# Altium footprint library Cnverter.PcbLib: 105 footprints (part 1 of 7)
Each footprint in its own frame and in the unit in brackets; x right, y up, seen from the top. Pads: shape width x height; smd on the part's side, far side on the other; paste and mask are expansions set on the pad; w line width, h text height; cw(c..) or ccw(c..) is an arc to the next point about the centre after c.
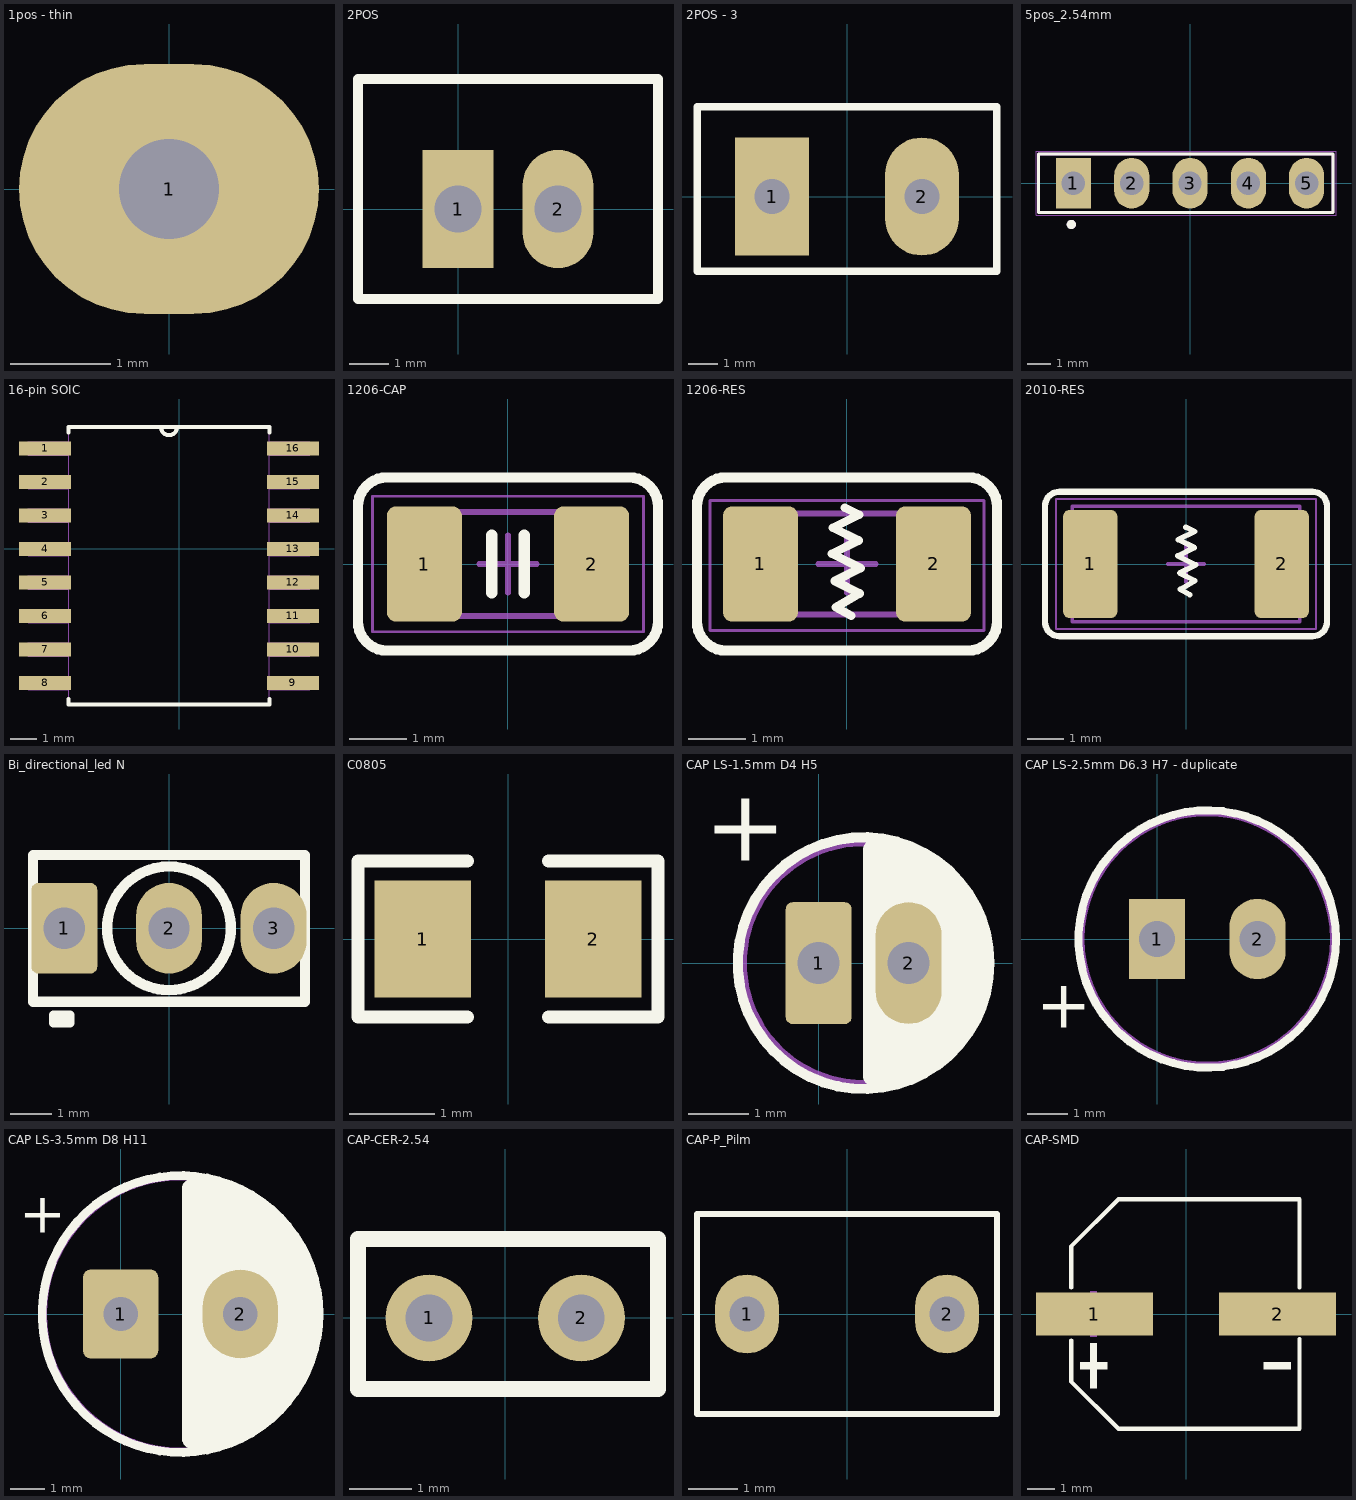
[diagram p0: the footprints below, top view; thin cyan lines are the x and y axes]

## 1pos - thin [mm]
pads (1):
  oval 3x2.5 hole 1: 1(0,0)

## 2POS [mm]
pads (2):
  rect 1.8x3 hole 1.2: 1(0,0)
  oval 1.8x3 hole 1.2: 2(2.54,0)
Top Overlay:
  lines w0.254: -2.54,-2.286 5.08,-2.286 5.08,3.302 -2.54,3.302 -2.54,-2.286
3D body "JST 2pin.stp": height 6.69, standoff -3.61, extent -2.471,-2.322 4.958,3.406

## 2POS - 3 [mm]
pads (2):
  rect 2.5x4 hole 1.2: 1(-2.54,0)
  oval 2.5x4 hole 1.2: 2(2.54,0)
Top Overlay:
  lines w0.254: -5.08,-2.54 -5.08,3.048 5.08,3.048 5.08,-2.54 -5.08,-2.54
3D body "JST 2.54X3P.step": height 7.01, standoff -2.99, extent -5.043,-2.537 5.037,3.163

## 5pos_2.54mm [mm]
pads (5):
  rect 1.53x2.2 hole 1.02: 1(-5.08,0)
  oval 1.53x2.2 hole 1.02: 2(-2.54,0) 3(0,0) 4(2.54,0) 5(5.08,0)
Top Overlay:
  circle w0.2: c-5.17,-1.8 r0.1
  lines w0.127: -6.6,-1.27 -6.6,1.27 6.23,1.27 6.23,-1.27 -6.6,-1.27
Top Assembly:
  circle w0.2: c-5.17,-1.8 r0.1
  lines w0.127: -6.6,-1.27 -6.6,1.27 6.23,1.27 6.23,-1.27 -6.6,-1.27
Top Courtyard:
  lines w0.05: -6.709,-1.392 -6.709,1.39 6.358,1.39 6.358,-1.392 -6.709,-1.392

## 16-pin SOIC [mil]
pads (16):
  rect 78x21 smd: 1(-200,150) 2(-200,100) 3(-200,50) 4(-200,0) 5(-200,-50) 6(-200,-100) 7(-200,-150) 8(-200,-200) 9(170,-200) 10(170,-150) 11(170,-100) 12(170,-50) 13(170,0) 14(170,50) 15(170,100) 16(170,150)
Top Overlay:
  lines w6: -165,-224 -165,-232 135,-232 135,-224 ; -165,174 -165,182 -27,182 ; 135,174 135,182 -3,182 ; -27,182 ccw(c-15,182) -3,182 ; -27,182 -3,182
Top Assembly:
  lines w0: -27,182 ccw(c-15,182) -3,182 ; -27,182 -165,182 -165,-232 135,-232 135,182 -3,182 ; -27,182 -3,182 ; -225,-210 -165,-210 -165,-190 -225,-190 -225,-210 ; -225,-160 -165,-160 -165,-140 -225,-140 -225,-160 ; -225,-110 -165,-110 -165,-90 -225,-90 -225,-110 ; -225,-60 -165,-60 -165,-40 -225,-40 -225,-60 ; -225,-10 -165,-10 -165,10 -225,10 -225,-10 ; -225,40 -165,40 -165,60 -225,60 -225,40 ; -225,90 -165,90 -165,110 -225,110 -225,90 ; -225,140 -165,140 -165,160 -225,160 -225,140 ; 135,-210 195,-210 195,-190 135,-190 135,-210 ; 135,-160 195,-160 195,-140 135,-140 135,-160 ; 135,-110 195,-110 195,-90 135,-90 135,-110 ; 135,-60 195,-60 195,-40 135,-40 135,-60 ; 135,-10 195,-10 195,10 135,10 135,-10 ; 135,40 195,40 195,60 135,60 135,40 ; 135,90 195,90 195,110 135,110 135,90 ; 135,140 195,140 195,160 135,160 135,140
3D body "step_temp.STEP": height 104.33, standoff 0, extent -218.25,-227.76 188.25,177.76

## 1206-CAP [mm] "1206-CAP"
pads (2):
  rrect25% 1.3x2 smd: 1(-1.45,0) 2(1.45,0)
Top Overlay:
  lines w0.18: -2.6,-1 ccw(c-2.1,-1) -2.1,-1.5 2.1,-1.5 ccw(c2.1,-1) 2.6,-1 2.6,1 ccw(c2.1,1) 2.1,1.5 -2.1,1.5 ccw(c-2.1,1) -2.6,1 -2.6,-1
  lines w0.2: -0.28,-0.5 -0.28,0.5 ; 0.28,-0.5 0.28,0.5
Mechanical 3:
  lines w0.05: -2.35,-1.175 -2.35,1.175 2.35,1.175 2.35,-1.175 -2.35,-1.175
  lines w0.1: -0.5,0 0.5,0 ; 0,-0.5 0,0.5 ; -1.7,-0.9 -1.7,0.9 ; -1.7,-0.9 1.7,-0.9 ; -1.7,-0.9 -1.7,0.9 ; -1.7,-0.9 1.7,-0.9 ; -1.7,0.9 1.7,0.9 ; -1.7,0.9 1.7,0.9 ; 1.7,-0.9 1.7,0.9 ; 1.7,-0.9 1.7,0.9
3D body "CAP-1206.STEP": height 1, standoff 0, extent -1.6,-0.8 1.6,0.8

## 1206-RES [mm] "1206-RES"
pads (2):
  rrect25% 1.3x2 smd: 1(-1.5,0) 2(1.5,0)
Top Overlay:
  lines w0.15: -0.037,0.976 0.208,0.854 -0.243,0.629 0.202,0.406 -0.259,0.176 0.236,-0.071 -0.212,-0.295 0.218,-0.51 -0.19,-0.749 0.075,-0.9
  lines w0.18: -2.6,-1 ccw(c-2.1,-1) -2.1,-1.5 2.1,-1.5 ccw(c2.1,-1) 2.6,-1 2.6,1 ccw(c2.1,1) 2.1,1.5 -2.1,1.5 ccw(c-2.1,1) -2.6,1 -2.6,-1
Mechanical 3:
  lines w0.05: -2.375,-1.15 2.375,-1.15 2.375,1.1 -2.375,1.1 -2.375,-1.15
  lines w0.1: -0.5,0 0.5,0 ; 0,-0.5 0,0.5 ; -1.675,-0.875 1.675,-0.875 1.675,0.875 -1.675,0.875 -1.675,-0.875
3D body "RES-1206.STEP": height 1, standoff 0, extent -1.6,-0.8 1.6,0.8

## 2010-RES [mm] "2010-RES"
pads (2):
  rrect25% 1.5x3 smd: 1(-2.65,0) 2(2.65,0)
Top Overlay:
  lines w0.15: -0.006,1.022 0.239,0.9 -0.211,0.675 0.233,0.453 -0.227,0.222 0.267,-0.025 -0.181,-0.249 0.249,-0.464 -0.159,-0.702 0.106,-0.854
  lines w0.17: -3.9,-1.6 ccw(c-3.5,-1.6) -3.5,-2 3.5,-2 ccw(c3.5,-1.6) 3.9,-1.6 3.9,1.6 ccw(c3.5,1.6) 3.5,2 -3.5,2 ccw(c-3.5,1.6) -3.9,1.6 -3.9,-1.6
Mechanical 3:
  lines w0.05: -3.6,-1.8 3.6,-1.8 3.6,1.8 -3.6,1.8 -3.6,-1.8
  lines w0.1: -0.5,0 0.5,0 ; 0,-0.5 0,0.5 ; -3.15,-1.6 3.15,-1.6 3.15,1.6 -3.15,1.6 -3.15,-1.6
3D body "CRM2010-FX-1000ELF.STEP": height 0.7, standoff 0, extent -2.5,-1.25 2.5,1.25

## Bi_directional_led N [mm] "Bi_directional_led"
pads (3):
  rrect20% 1.6x2.2 hole 1: 1(-2.541,0)
  oval 1.6x2.2 hole 1: 2(0,0) 3(2.54,0)
Top Overlay:
  lines w0.22: -2.8,-2.3 -2.4,-2.3 -2.4,-2.1 -2.8,-2.1 -2.8,-2.3
  lines w0.25: -3.3,-1.78 -3.3,1.78 3.3,1.78 3.3,-1.78 -3.3,-1.78 ; -1.5,0 -1.496,0.105 -1.485,0.209 -1.467,0.312 -1.442,0.413 -1.41,0.513 -1.37,0.61 -1.324,0.704 -1.272,0.795 -1.214,0.882 -1.149,0.964 -1.079,1.042 -1.004,1.115 -0.923,1.182 -0.839,1.244 -0.75,1.299 -0.658,1.348 -0.562,1.391 -0.464,1.427 -0.363,1.455 -0.26,1.477 -0.157,1.492 -0.052,1.499 0.052,1.499 0.157,1.492 0.26,1.477 0.363,1.455 0.464,1.427 0.562,1.391 0.658,1.348 0.75,1.299 0.839,1.244 0.923,1.182 1.004,1.115 1.079,1.042 1.149,0.964 1.214,0.882 1.272,0.795 1.324,0.704 1.37,0.61 1.41,0.513 1.442,0.413 1.467,0.312 1.485,0.209 1.496,0.105 1.5,0 1.496,-0.105 1.485,-0.209 1.467,-0.312 1.442,-0.413 1.41,-0.513 1.37,-0.61 1.324,-0.704 1.272,-0.795 1.214,-0.882 1.149,-0.964 1.079,-1.042 1.004,-1.115 0.923,-1.182 0.839,-1.244 0.75,-1.299 0.658,-1.348 0.562,-1.391 0.464,-1.427 0.363,-1.455 0.26,-1.477 0.157,-1.492 0.052,-1.499 -0.052,-1.499 -0.157,-1.492 -0.26,-1.477 -0.363,-1.455 -0.464,-1.427 -0.562,-1.391 -0.658,-1.348 -0.75,-1.299 -0.839,-1.244 -0.923,-1.182 -1.004,-1.115 -1.079,-1.042 -1.149,-0.964 -1.214,-0.882 -1.272,-0.795 -1.324,-0.704 -1.37,-0.61 -1.41,-0.513 -1.442,-0.413 -1.467,-0.312 -1.485,-0.209 -1.496,-0.105 -1.5,0
3D body "Bi-Color LED - Common Cathode v3.step": height 22.3, standoff -11.5, extent -2.77,-1.886 2.77,1.886

## C0805 [mm]
pads (2):
  rect 1.133x1.377 smd paste-100 mask+0.051: 1(-1,0) 2(1,0)
Top Overlay:
  lines w0.152: -0.476,-0.917 -1.761,-0.917 -1.761,0.917 -0.476,0.917 ; 0.476,-0.917 1.761,-0.917 1.761,0.917 0.476,0.917
3D body "C0805C103K4RACTU.STEP": height 0.88, standoff 0, extent -1.024,-0.625 0.976,0.625

## CAP LS-1.5mm D4 H5 [mm]
pads (2):
  rrect20% 1.1x2.032 hole 0.7: 1(0,0)
  oval 1.1x2.032 hole 0.7: 2(1.5,0)
Top Overlay:
  circle w0.17: c0.75,0 r2.1
  region: 0.742,1.881 0.742,-1.891 0.786,-1.936 0.947,-1.936 1.264,-1.873 1.562,-1.749 1.83,-1.57 1.944,-1.456 2.025,-1.375 2.174,-1.226 2.407,-0.877 2.568,-0.489 2.65,-0.076 2.65,0.134 2.65,0.15 2.65,0.322 2.583,0.661 2.451,0.979 2.259,1.266 2.137,1.388 1.925,1.6 1.855,1.67 1.69,1.78 1.507,1.856 1.312,1.895 1.213,1.895 0.887,1.895
  lines w0.3: 0.887,1.895 cw(c0.75,0) 0.89,-1.895
  text "+" at -1.905,1.705 h1.2
Top Assembly:
  circle w0.1: c0.75,0 r2
3D body "Aluminum_electrolytic_capacitor_radial_D4_H5_PinD0.45_Pitch1.5_nominal_blue.step": height 5, standoff -3, extent -1.25,-2 2.742,2

## CAP LS-2.5mm D6.3 H7 - duplicate [mm]
pads (2):
  rect 1.4x2 hole 0.9: 1(0,0)
  oval 1.4x2 hole 0.9: 2(2.5,0)
Top Overlay:
  circle w0.2: c1.25,0 r3.2
  text "+" at -3.008,-2.21 h1.2
Top Assembly:
  circle w0.1: c1.25,0 r3.1
3D body "Aluminum_electrolytic_capacitor_radial_D6.3_H7_PinD0.5_Pitch2.5_nominal_blue.step": height 7, standoff -3, extent -1.888,-3.142 4.388,3.142

## CAP LS-3.5mm D8 H11 [mm] "CAP LS-3.5mm D8"
pads (2):
  rrect20% 2.2x2.6 hole 1: 1(0,0)
  oval 2.2x2.6 hole 1: 2(3.5,0)
Top Overlay:
  circle w0.254: c1.75,0 r4.05
  circle w0.254: c1.75,0 r4.05
  region: 1.808,3.7 2.348,3.7 2.599,3.7 3.089,3.602 3.551,3.41 3.968,3.132 4.144,2.956 4.9,2.2 5.066,2.034 5.328,1.642 5.508,1.207 5.6,0.745 5.6,0.51 5.6,-0.593 5.6,-0.761 5.534,-1.091 5.406,-1.402 5.219,-1.681 5.1,-1.8 5.1,-1.848 5.081,-1.941 5.045,-2.029 4.992,-2.108 4.959,-2.141 4,-3.1 3.857,-3.243 3.522,-3.467 3.149,-3.621 2.753,-3.7 2.551,-3.7 1.808,-3.725
  lines w0.5: 2.038,3.689 cw(c1.75,0) 2.056,-3.687
  text "-" at 3.25,1.35 h1
  text "+" at -2.973,2.374 h1.2
  text "-" at 3.25,1.35 h1
Top Assembly:
  circle w0.1: c1.75,0 r4
  circle w0.1: c1.75,0 r3.95
3D body "Aluminum_electrolytic_capacitor_radial_D8_H11_PinD0.6_Pitch3.5_nominal_blue.step": height 11, standoff -3, extent -2.241,-3.992 5.75,3.992

## CAP-CER-2.54 [mm]
height 3.85
pads (2):
  round 1.397 hole 0.75: 1(-1.225,0) 2(1.225,0)
Top Overlay:
  lines w0.254: -2.368,-1.143 2.458,-1.143 2.458,1.27 -2.368,1.27 -2.368,-1.143
3D body "Cap.STEP": height 4.99, standoff -2, extent -1.62,-0.5 1.62,0.5

## CAP-P_Pilm [mm]
height 5.08
pads (2):
  oval 1.3x1.6 hole 0.71: 1(-2.032,0) 2(2.032,0)
Top Overlay:
  lines w0.127: -3.048,-2.032 3.048,-2.032 3.048,-1.587 3.048,2.032 -3.048,2.032 -3.048,-2.032
Top Courtyard:
  lines w0.05: -3.048,-2.032 3.048,-2.032 3.048,2.032 -3.048,2.032 -3.048,-2.032
3D body "polyester capacitor.STEP": height 12.5, standoff -2, extent -3,-2 3,2

## CAP-SMD [mm]
pads (2):
  rect 4.3x1.6 smd paste+0 mask+0.051: 1(-3.373,0) 2(3.373,0)
Top Overlay:
  region: 3.851,-1.785 3.851,-2.033 2.855,-2.033 2.855,-1.785
  region: -3.901,-1.785 -3.901,-2.033 -2.905,-2.033 -2.905,-1.785
  region: -3.528,-1.079 -3.528,-2.739 -3.279,-2.739 -3.279,-1.079
  lines w0.152: -4.227,-0.98 -4.227,-2.49 -2.49,-4.226 4.176,-4.226 ; -4.227,0.98 -4.227,2.49 -2.49,4.226 4.176,4.226 4.176,0.98 ; 4.176,-4.172 4.176,-0.926
Top Courtyard:
  region: 3.851,0.125 3.851,-0.125 2.855,-0.125 2.855,0.125
  region: -3.901,0.125 -3.901,-0.125 -2.905,-0.125 -2.905,0.125
  region: -3.528,0.83 -3.528,-0.83 -3.279,-0.83 -3.279,0.83
3D body "EEEFN1E221L.STEP": height 10.2, standoff 0, extent -4.92,-4.161 4.78,4.139